# Altium footprint library Con Rect Stag PCB.PcbLib: 59 footprints (part 2 of 4)
Each footprint in its own frame and in the unit in brackets; x right, y up, seen from the top. Pads: shape width x height; smd on the part's side, far side on the other; paste and mask are expansions set on the pad; w line width, h text height; cw(c..) or ccw(c..) is an arc to the next point about the centre after c.
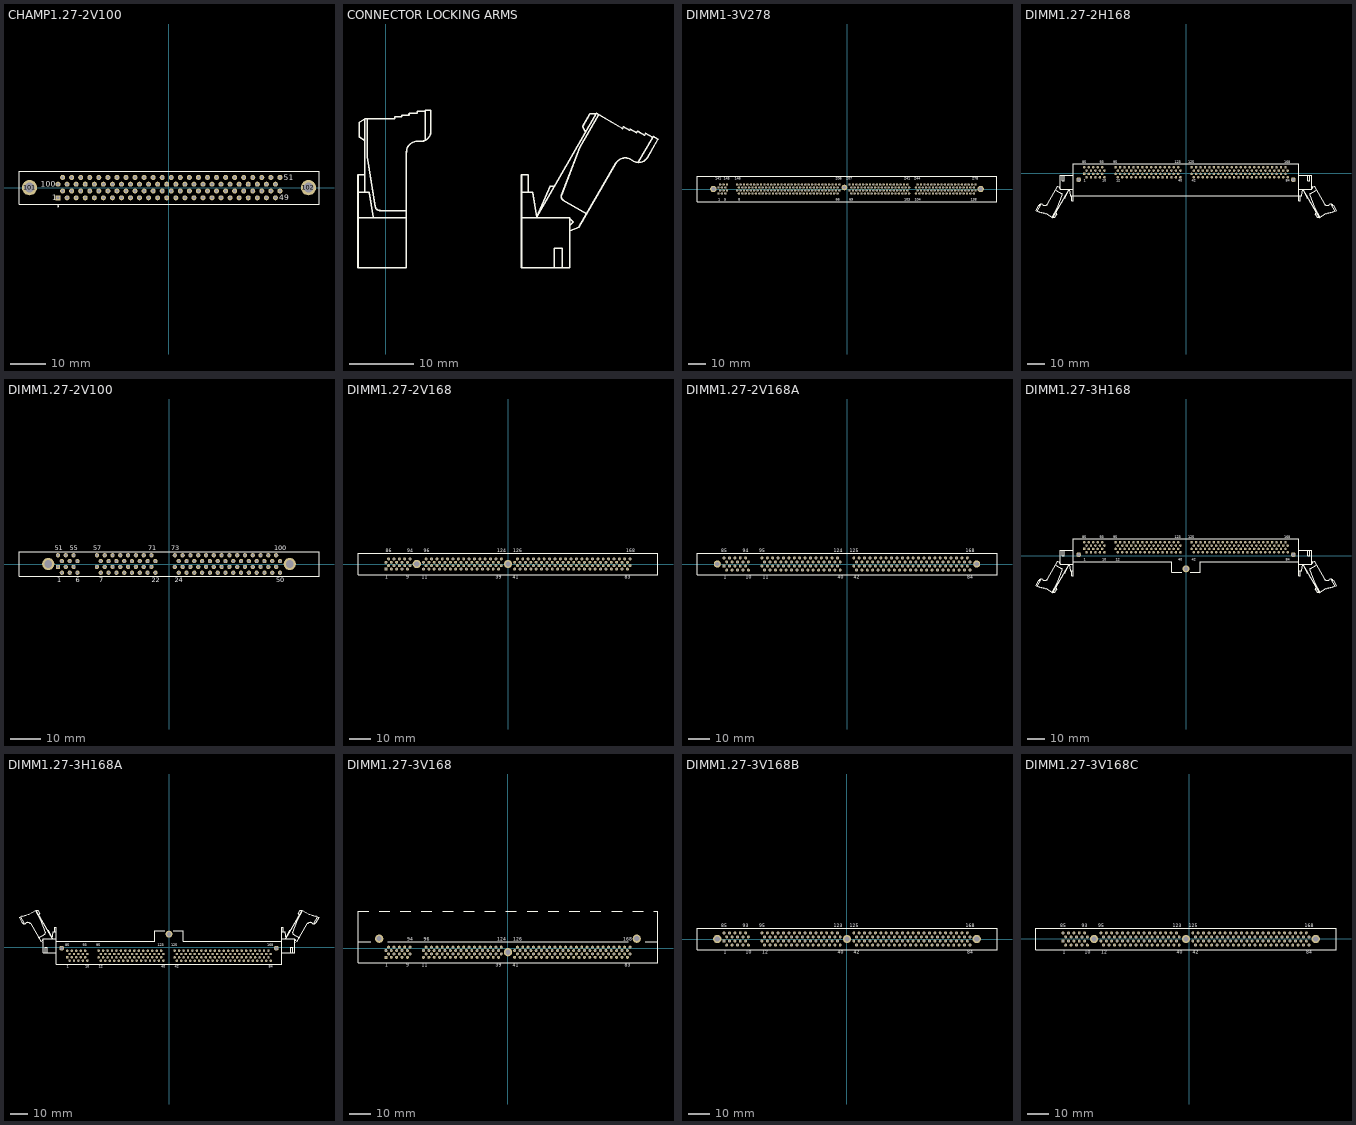
[diagram p1: the footprints below, top view; thin cyan lines are the x and y axes]

## CHAMP1.27-2V100 [mm] "Connector; CHAMP Miniature Ribbon 050 Series II; 100 Position; Vertical"
height 11.1
pads (102):
  rect 1.4x1.4 hole 0.8: 1(-31.115,-2.857)
  round 1.4 hole 0.8: 2(-29.845,-0.953) 3(-28.575,-2.857) 4(-27.305,-0.953) 5(-26.035,-2.857) 6(-24.765,-0.953) 7(-23.495,-2.857) 8(-22.225,-0.953) 9(-20.955,-2.857) 10(-19.685,-0.953) 11(-18.415,-2.857) 12(-17.145,-0.953) 13(-15.875,-2.857) 14(-14.605,-0.953) 15(-13.335,-2.857) 16(-12.065,-0.953) 17(-10.795,-2.857) 18(-9.525,-0.953) 19(-8.255,-2.857) 20(-6.985,-0.953) 21(-5.715,-2.857) 22(-4.445,-0.953) 23(-3.175,-2.857) 24(-1.905,-0.953) 25(-0.635,-2.857) 26(0.635,-0.953) 27(1.905,-2.857) 28(3.175,-0.953) 29(4.445,-2.857) 30(5.715,-0.953) 31(6.985,-2.857) 32(8.255,-0.953) 33(9.525,-2.857) 34(10.795,-0.953) 35(12.065,-2.857) 36(13.335,-0.953) 37(14.605,-2.857) 38(15.875,-0.953) 39(17.145,-2.857) 40(18.415,-0.953) 41(19.685,-2.857) 42(20.955,-0.953) 43(22.225,-2.857) 44(23.495,-0.953) 45(24.765,-2.857) 46(26.035,-0.953) 47(27.305,-2.857) 48(28.575,-0.953) 49(29.845,-2.857) 50(31.115,-0.953) 51(31.115,2.857) 52(29.845,0.953) 53(28.575,2.857) 54(27.305,0.953) 55(26.035,2.857) 56(24.765,0.953) 57(23.495,2.857) 58(22.225,0.953) 59(20.955,2.857) 60(19.685,0.953) 61(18.415,2.857) 62(17.145,0.953) 63(15.875,2.857) 64(14.605,0.953) 65(13.335,2.857) 66(12.065,0.953) 67(10.795,2.857) 68(9.525,0.953) 69(8.255,2.857) 70(6.985,0.953) 71(5.715,2.857) 72(4.445,0.953) 73(3.175,2.857) 74(1.905,0.953) 75(0.635,2.857) 76(-0.635,0.953) 77(-1.905,2.857) 78(-3.175,0.953) 79(-4.445,2.857) 80(-5.715,0.953) 81(-6.985,2.857) 82(-8.255,0.953) 83(-9.525,2.857) 84(-10.795,0.953) 85(-12.065,2.857) 86(-13.335,0.953) 87(-14.605,2.857) 88(-15.875,0.953) 89(-17.145,2.857) 90(-18.415,0.953) 91(-19.685,2.857) 92(-20.955,0.953) 93(-22.225,2.857) 94(-23.495,0.953) 95(-24.765,2.857) 96(-26.035,0.953) 97(-27.305,2.857) 98(-28.575,0.953) 99(-29.845,2.857) 100(-31.115,0.953)
  round 4.3 hole 2.8: 101(-39.125,0) 102(39.125,0)
Top Overlay:
  circle w0.25: c-31.115,-5.25 r0.125
  lines w0.2: -42.075,-4.6 42.075,-4.6 42.075,4.6 -42.075,4.6 -42.075,-4.6
  text "51" at 32.19,2.107 h1.5
  text "49" at 30.92,-3.608 h1.5
  text "1" at -32.69,-3.608 h1.5
  text "100" at -35.94,0.202 h1.5

## CONNECTOR LOCKING ARMS [mm]
Top Overlay:
  lines w0.25: -4.335,-45.865 3.135,-45.865 ; -3.355,-33.845 -4.155,-33.285 -4.155,-31.075 -3.295,-30.545 ; -3.295,-41.915 -3.295,-39.195 ; -2.895,-30.485 -2.895,-36.385 -1.635,-44.215 ccw(c-0.992,-44.091) -0.912,-44.741 ; -1.935,-45.795 -2.575,-41.945 -4.335,-41.945 ; -1.035,-44.765 3.185,-44.765 ; 3.185,-35.535 3.185,-53.665 -4.335,-53.665 -4.335,-41.945 ; 3.196,-35.674 cw(c4.865,-35.674) 4.865,-34.005 5.42,-34.005 ; 5.423,-34.007 ccw(c5.423,-32.445) 6.985,-32.445 ; 6.095,-29.325 4.865,-29.325 4.865,-29.665 3.645,-29.665 3.585,-29.725 3.585,-29.965 2.485,-29.965 2.485,-30.195 1.385,-30.195 1.385,-30.485 -3.295,-30.485 -3.295,-39.195 ; 6.105,-33.795 6.115,-29.345 6.115,-29.155 6.985,-29.155 6.985,-32.515 ; 21.065,-45.865 28.585,-45.865 28.585,-53.665 21.065,-53.665 21.065,-41.945 ; 22.105,-41.915 22.105,-39.195 21.065,-39.195 21.065,-41.945 ; 23.465,-45.795 22.825,-41.945 21.065,-41.945 ; 26.135,-53.665 26.135,-50.635 27.385,-50.635 27.385,-53.665 ; 26.195,-40.965 25.537,-40.965 23.437,-45.74 32.717,-29.667 36.77,-32.007 36.915,-31.756 37.868,-32.306 37.983,-32.106 38.936,-32.656 39.056,-32.449 39.137,-32.427 40.194,-33.037 40.364,-32.742 41.429,-33.357 ; 27.534,-43.164 31.189,-45.274 ; 27.653,-43.205 cw(c27.909,-42.602) 27.29,-42.387 30.114,-34.976 33.064,-29.867 ; 28.585,-47.865 29.989,-47.352 35.729,-37.41 ; 28.585,-47.061 29.093,-46.553 28.585,-46.045 ; 30.985,-32.547 30.572,-31.662 31.677,-29.748 32.687,-29.719 ; 35.744,-37.406 cw(c37.19,-38.24) 38.024,-36.795 38.505,-37.073 ; 38.506,-37.076 ccw(c39.287,-35.723) 40.64,-36.504 ; 39.203,-37.233 41.437,-33.385 41.532,-33.22 42.285,-33.655 40.605,-36.565 ; -4.335,-41.945 -4.335,-39.195 -3.295,-39.195

## DIMM1-3V278 [mm] "Connector; DIMM II; 278 Position; Vertical"
height 23.41
pads (281):
  rect 1.4x1.4 hole 0.76: 1(-75.5,-2.625)
  round 1.4 hole 0.76: 2(-74.5,-0.875) 3(-73.5,-2.625) 4(-72.5,-0.875) 5(-71.5,-2.625) 6(-70.5,-0.875) 7(-64.5,-0.875) 8(-63.5,-2.625) 9(-62.5,-0.875) 10(-61.5,-2.625) 11(-60.5,-0.875) 12(-59.5,-2.625) 13(-58.5,-0.875) 14(-57.5,-2.625) 15(-56.5,-0.875) 16(-55.5,-2.625) 17(-54.5,-0.875) 18(-53.5,-2.625) 19(-52.5,-0.875) 20(-51.5,-2.625) 21(-50.5,-0.875) 22(-49.5,-2.625) 23(-48.5,-0.875) 24(-47.5,-2.625) 25(-46.5,-0.875) 26(-45.5,-2.625) 27(-44.5,-0.875) 28(-43.5,-2.625) 29(-42.5,-0.875) 30(-41.5,-2.625) 31(-40.5,-0.875) 32(-39.5,-2.625) 33(-38.5,-0.875) 34(-37.5,-2.625) 35(-36.5,-0.875) 36(-35.5,-2.625) 37(-34.5,-0.875) 38(-33.5,-2.625) 39(-32.5,-0.875) 40(-31.5,-2.625) 41(-30.5,-0.875) 42(-29.5,-2.625) 43(-28.5,-0.875) 44(-27.5,-2.625) 45(-26.5,-0.875) 46(-25.5,-2.625) 47(-24.5,-0.875) 48(-23.5,-2.625) 49(-22.5,-0.875) 50(-21.5,-2.625) 51(-20.5,-0.875) 52(-19.5,-2.625) 53(-18.5,-0.875) 54(-17.5,-2.625) 55(-16.5,-0.875) 56(-15.5,-2.625) 57(-14.5,-0.875) 58(-13.5,-2.625) 59(-12.5,-0.875) 60(-11.5,-2.625) 61(-10.5,-0.875) 62(-9.5,-2.625) 63(-8.5,-0.875) 64(-7.5,-2.625) 65(-6.5,-0.875) 66(-5.5,-2.625) 67(-4.5,-0.875) 68(1.5,-0.875) 69(2.5,-2.625) 70(3.5,-0.875) 71(4.5,-2.625) 72(5.5,-0.875) 73(6.5,-2.625) 74(7.5,-0.875) 75(8.5,-2.625) 76(9.5,-0.875) 77(10.5,-2.625) 78(11.5,-0.875) 79(12.5,-2.625) 80(13.5,-0.875) 81(14.5,-2.625) 82(15.5,-0.875) 83(16.5,-2.625) 84(17.5,-0.875) 85(18.5,-2.625) 86(19.5,-0.875) 87(20.5,-2.625) 88(21.5,-0.875) 89(22.5,-2.625) 90(23.5,-0.875) 91(24.5,-2.625) 92(25.5,-0.875) 93(26.5,-2.625) 94(27.5,-0.875) 95(28.5,-2.625) 96(29.5,-0.875) 97(30.5,-2.625) 98(31.5,-0.875) 99(32.5,-2.625) 100(33.5,-0.875) 101(34.5,-2.625) 102(35.5,-0.875) 103(36.5,-2.625) 104(40.5,-2.625) 105(41.5,-0.875) 106(42.5,-2.625) 107(43.5,-0.875) 108(44.5,-2.625) 109(45.5,-0.875) 110(46.5,-2.625) 111(47.5,-0.875) 112(48.5,-2.625) 113(49.5,-0.875) 114(50.5,-2.625) 115(51.5,-0.875) 116(52.5,-2.625) 117(53.5,-0.875) 118(54.5,-2.625) 119(55.5,-0.875) 120(56.5,-2.625) 121(57.5,-0.875) 122(58.5,-2.625) 123(59.5,-0.875) 124(60.5,-2.625) 125(61.5,-0.875) 126(62.5,-2.625) 127(63.5,-0.875) 128(64.5,-2.625) 129(65.5,-0.875) 130(66.5,-2.625) 131(67.5,-0.875) 132(68.5,-2.625) 133(69.5,-0.875) 134(70.5,-2.625) 135(71.5,-0.875) 136(72.5,-2.625) 137(73.5,-0.875) 138(74.5,-2.625) 139(75.5,-0.875) 140(-75.5,0.875) 141(-74.5,2.625) 142(-73.5,0.875) 143(-72.5,2.625) 144(-71.5,0.875) 145(-70.5,2.625) 146(-64.5,2.625) 147(-63.5,0.875) 148(-62.5,2.625) 149(-61.5,0.875) 150(-60.5,2.625) 151(-59.5,0.875) 152(-58.5,2.625) 153(-57.5,0.875) 154(-56.5,2.625) 155(-55.5,0.875) 156(-54.5,2.625) 157(-53.5,0.875) 158(-52.5,2.625) 159(-51.5,0.875) 160(-50.5,2.625) 161(-49.5,0.875) 162(-48.5,2.625) 163(-47.5,0.875) 164(-46.5,2.625) 165(-45.5,0.875) 166(-44.5,2.625) 167(-43.5,0.875) 168(-42.5,2.625) 169(-41.5,0.875) 170(-40.5,2.625) 171(-39.5,0.875) 172(-38.5,2.625) 173(-37.5,0.875) 174(-36.5,2.625) 175(-35.5,0.875) 176(-34.5,2.625) 177(-33.5,0.875) 178(-32.5,2.625) 179(-31.5,0.875) 180(-30.5,2.625) 181(-29.5,0.875) 182(-28.5,2.625) 183(-27.5,0.875) 184(-26.5,2.625) 185(-25.5,0.875) 186(-24.5,2.625) 187(-23.5,0.875) 188(-22.5,2.625) 189(-21.5,0.875) 190(-20.5,2.625) 191(-19.5,0.875) 192(-18.5,2.625) 193(-17.5,0.875) 194(-16.5,2.625) 195(-15.5,0.875) 196(-14.5,2.625) 197(-13.5,0.875) 198(-12.5,2.625) 199(-11.5,0.875) 200(-10.5,2.625) 201(-9.5,0.875) 202(-8.5,2.625) 203(-7.5,0.875) 204(-6.5,2.625) 205(-5.5,0.875) 206(-4.5,2.625) 207(1.5,2.625) 208(2.5,0.875) 209(3.5,2.625) 210(4.5,0.875) 211(5.5,2.625) 212(6.5,0.875) 213(7.5,2.625) 214(8.5,0.875) 215(9.5,2.625) 216(10.5,0.875) 217(11.5,2.625) 218(12.5,0.875) 219(13.5,2.625) 220(14.5,0.875) 221(15.5,2.625) 222(16.5,0.875) 223(17.5,2.625) 224(18.5,0.875) 225(19.5,2.625) 226(20.5,0.875) 227(21.5,2.625) 228(22.5,0.875) 229(23.5,2.625) 230(24.5,0.875) 231(25.5,2.625) 232(26.5,0.875) 233(27.5,2.625) 234(28.5,0.875) 235(29.5,2.625) 236(30.5,0.875) 237(31.5,2.625) 238(32.5,0.875) 239(33.5,2.625) 240(34.5,0.875) 241(35.5,2.625) 242(36.5,0.875) 243(40.5,0.875) 244(41.5,2.625) 245(42.5,0.875) 246(43.5,2.625) 247(44.5,0.875) 248(45.5,2.625) 249(46.5,0.875) 250(47.5,2.625) 251(48.5,0.875) 252(49.5,2.625) 253(50.5,0.875) 254(51.5,2.625) 255(52.5,0.875) 256(53.5,2.625) 257(54.5,0.875) 258(55.5,2.625) 259(56.5,0.875) 260(57.5,2.625) 261(58.5,0.875) 262(59.5,2.625) 263(60.5,0.875) 264(61.5,2.625) 265(62.5,0.875) 266(63.5,2.625) 267(64.5,0.875) 268(65.5,2.625) 269(66.5,0.875) 270(67.5,2.625) 271(68.5,0.875) 272(69.5,2.625) 273(70.5,0.875) 274(71.5,2.625) 275(72.5,0.875) 276(73.5,2.625) 277(74.5,0.875) 278(75.5,2.625)
  round 3.8 hole 2.29: 279(-78.5,0) 281(78.5,0)
  round 3.3 hole 2: 280(-1.5,0.88)
Top Overlay:
  lines w0.2: -88.12,-7.5 -88.12,7.5 88.12,7.5 88.12,-7.5 -88.12,-7.5
  text "278" at 73.5,5.525 h1.5
  text "138" at 72.625,-7.025 h1.5
  text "244" at 39.5,5.525 h1.5
  text "104" at 39.75,-7.025 h1.5
  text "241" at 33.5,5.525 h1.5
  text "103" at 33.5,-7.025 h1.5
  text "207" at -0.5,5.525 h1.5
  text "69" at 1.25,-7.025 h1.5
  text "206" at -6.5,5.525 h1.5
  text "66" at -6.75,-7.025 h1.5
  text "146" at -66,5.525 h1.5
  text "8" at -64,-7.025 h1.5
  text "145" at -72.375,5.525 h1.5
  text "5" at -72,-7.025 h1.5
  text "141" at -77.3,5.525 h1.5
  text "1" at -75.75,-7.025 h1.5

## DIMM1.27-2H168 [mm] "Connector; DIMM II; 168 Position; Right Angle"
height 12.7
pads (170):
  rect 1.4x1.4 hole 0.8: 1(-57.785,-0.245)
  round 1.4 hole 0.8: 2(-56.515,-2.145) 3(-55.245,-0.245) 4(-53.975,-2.145) 5(-52.705,-0.245) 6(-51.435,-2.145) 7(-50.165,-0.245) 8(-48.895,-2.145) 9(-47.625,-0.245) 10(-46.355,-2.145) 11(-40.005,-0.245) 12(-38.735,-2.145) 13(-37.465,-0.245) 14(-36.195,-2.145) 15(-34.925,-0.245) 16(-33.655,-2.145) 17(-32.385,-0.245) 18(-31.115,-2.145) 19(-29.845,-0.245) 20(-28.575,-2.145) 21(-27.305,-0.245) 22(-26.035,-2.145) 23(-24.765,-0.245) 24(-23.495,-2.145) 25(-22.225,-0.245) 26(-20.955,-2.145) 27(-19.685,-0.245) 28(-18.415,-2.145) 29(-17.145,-0.245) 30(-15.875,-2.145) 31(-14.605,-0.245) 32(-13.335,-2.145) 33(-12.065,-0.245) 34(-10.795,-2.145) 35(-9.525,-0.245) 36(-8.255,-2.145) 37(-6.985,-0.245) 38(-5.715,-2.145) 39(-4.445,-0.245) 40(-3.175,-2.145) 41(3.175,-0.245) 42(4.445,-2.145) 43(5.715,-0.245) 44(6.985,-2.145) 45(8.255,-0.245) 46(9.525,-2.145) 47(10.795,-0.245) 48(12.065,-2.145) 49(13.335,-0.245) 50(14.605,-2.145) 51(15.875,-0.245) 52(17.145,-2.145) 53(18.415,-0.245) 54(19.685,-2.145) 55(20.955,-0.245) 56(22.225,-2.145) 57(23.495,-0.245) 58(24.765,-2.145) 59(26.035,-0.245) 60(27.305,-2.145) 61(28.575,-0.245) 62(29.845,-2.145) 63(31.115,-0.245) 64(32.385,-2.145) 65(33.655,-0.245) 66(34.925,-2.145) 67(36.195,-0.245) 68(37.465,-2.145) 69(38.735,-0.245) 70(40.005,-2.145) 71(41.275,-0.245) 72(42.545,-2.145) 73(43.815,-0.245) 74(45.085,-2.145) 75(46.355,-0.245) 76(47.625,-2.145) 77(48.895,-0.245) 78(50.165,-2.145) 79(51.435,-0.245) 80(52.705,-2.145) 81(53.975,-0.245) 82(55.245,-2.145) 83(56.515,-0.245) 84(57.785,-2.145) 85(-57.785,3.555) 86(-56.515,1.655) 87(-55.245,3.555) 88(-53.975,1.655) 89(-52.705,3.555) 90(-51.435,1.655) 91(-50.165,3.555) 92(-48.895,1.655) 93(-47.625,3.555) 94(-46.355,1.655) 95(-40.005,3.555) 96(-38.735,1.655) 97(-37.465,3.555) 98(-36.195,1.655) 99(-34.925,3.555) 100(-33.655,1.655) 101(-32.385,3.555) 102(-31.115,1.655) 103(-29.845,3.555) 104(-28.575,1.655) 105(-27.305,3.555) 106(-26.035,1.655) 107(-24.765,3.555) 108(-23.495,1.655) 109(-22.225,3.555) 110(-20.955,1.655) 111(-19.685,3.555) 112(-18.415,1.655) 113(-17.145,3.555) 114(-15.875,1.655) 115(-14.605,3.555) 116(-13.335,1.655) 117(-12.065,3.555) 118(-10.795,1.655) 119(-9.525,3.555) 120(-8.255,1.655) 121(-6.985,3.555) 122(-5.715,1.655) 123(-4.445,3.555) 124(-3.175,1.655) 125(3.175,3.555) 126(4.445,1.655) 127(5.715,3.555) 128(6.985,1.655) 129(8.255,3.555) 130(9.525,1.655) 131(10.795,3.555) 132(12.065,1.655) 133(13.335,3.555) 134(14.605,1.655) 135(15.875,3.555) 136(17.145,1.655) 137(18.415,3.555) 138(19.685,1.655) 139(20.955,3.555) 140(22.225,1.655) 141(23.495,3.555) 142(24.765,1.655) 143(26.035,3.555) 144(27.305,1.655) 145(28.575,3.555) 146(29.845,1.655) 147(31.115,3.555) 148(32.385,1.655) 149(33.655,3.555) 150(34.925,1.655) 151(36.195,3.555) 152(37.465,1.655) 153(38.735,3.555) 154(40.005,1.655) 155(41.275,3.555) 156(42.545,1.655) 157(43.815,3.555) 158(45.085,1.655) 159(46.355,3.555) 160(47.625,1.655) 161(48.895,3.555) 162(50.165,1.655) 163(51.435,3.555) 164(52.705,1.655) 165(53.975,3.555) 166(55.245,1.655) 167(56.515,3.555) 168(57.785,1.655)
  round 2.778 hole 1.778: 169(-60.96,-3.555) 170(60.96,-3.555)
Top Overlay:
  lines w0.25: -84.364,-21.363 -83.299,-21.978 -83.129,-21.683 -82.072,-22.293 -81.991,-22.271 -81.871,-22.064 -80.918,-22.614 -80.803,-22.414 -79.85,-22.964 -79.705,-22.713 -75.652,-25.053 -66.372,-8.98 -68.472,-13.755 -69.13,-13.755 ; -83.575,-18.216 cw(c-82.222,-18.997) -81.441,-17.644 ; -83.54,-18.155 -85.22,-21.065 -84.467,-21.5 -84.372,-21.335 -82.138,-17.487 ; -81.44,-17.647 -80.959,-17.925 ccw(c-80.125,-16.48) -78.679,-17.314 ; -78.664,-17.31 -72.924,-7.368 -71.52,-6.855 ; -75.999,-24.853 -73.049,-19.744 -70.225,-12.333 ccw(c-70.844,-12.118) -70.588,-11.515 ; -75.622,-25.001 -74.612,-24.972 -73.507,-23.058 -73.92,-22.173 ; -74.124,-9.446 -70.469,-11.556 ; -71.52,-8.675 -72.028,-8.167 -71.52,-7.659 ; -70.32,-1.055 -70.32,-4.085 -69.07,-4.085 -69.07,-1.055 ; -66.4,-8.925 -65.76,-12.775 -64,-12.775 ; -65.04,-12.805 -65.04,-15.525 -64,-15.525 -64,-12.775 ; -64,-8.855 -71.52,-8.855 -71.52,-1.055 -64,-1.055 ; 64,-8.855 71.52,-8.855 71.52,-1.055 64,-1.055 ; 65.04,-12.805 65.04,-15.525 64,-15.525 64,-12.775 ; 66.4,-8.925 65.76,-12.775 64,-12.775 ; 69.07,-1.055 69.07,-4.085 70.32,-4.085 70.32,-1.055 ; 69.13,-13.755 68.472,-13.755 66.372,-8.98 75.652,-25.053 79.705,-22.713 79.85,-22.964 80.803,-22.414 80.918,-22.614 81.871,-22.064 81.991,-22.271 82.072,-22.293 83.129,-21.683 83.299,-21.978 84.364,-21.363 ; 70.469,-11.556 74.124,-9.446 ; 70.588,-11.515 ccw(c70.844,-12.118) 70.225,-12.333 73.049,-19.744 75.999,-24.853 ; 71.52,-8.675 72.028,-8.167 71.52,-7.659 ; 71.52,-6.855 72.924,-7.368 78.664,-17.31 ; 73.92,-22.173 73.507,-23.058 74.612,-24.972 75.622,-25.001 ; 78.679,-17.314 ccw(c80.125,-16.48) 80.959,-17.925 81.44,-17.647 ; 81.441,-17.644 cw(c82.222,-18.997) 83.575,-18.216 ; 82.138,-17.487 84.372,-21.335 84.467,-21.5 85.22,-21.065 83.54,-18.155 ; -64,-12.775 64,-12.775 ; -64,-12.775 -64,-1.055 ; -64,-1.055 -64,5.445 64,5.445 64,-1.055 ; 64,-12.775 64,-1.055
  text "1" at -58.035,-4.72 h1.5
  text "85" at -59.035,5.92 h1.5
  text "10" at -47.48,-4.72 h1.5
  text "93" at -48.875,5.92 h1.5
  text "95" at -41.255,5.92 h1.5
  text "40" at -4.425,-4.72 h1.5
  text "123" at -6.32,5.92 h1.5
  text "125" at 1.3,5.92 h1.5
  text "42" at 3.195,-4.72 h1.5
  text "84" at 56.535,-4.72 h1.5
  text "168" at 55.91,5.92 h1.5
  text "12" at -39.61,-4.72 h1.5

## DIMM1.27-2V100 [mm] "Connector; DIMM II; 100 Position; Vertical"
height 23.82
pads (102):
  rect 1.4x1.4 hole 0.81: 1(-36.195,-0.95)
  round 1.4 hole 0.81: 2(-34.925,-2.85) 3(-33.655,-0.95) 4(-32.385,-2.85) 5(-31.115,-0.95) 6(-29.845,-2.85) 7(-23.495,-0.95) 8(-22.225,-2.85) 9(-20.955,-0.95) 10(-19.685,-2.85) 11(-18.415,-0.95) 12(-17.145,-2.85) 13(-15.875,-0.95) 14(-14.605,-2.85) 15(-13.335,-0.95) 16(-12.065,-2.85) 17(-10.795,-0.95) 18(-9.525,-2.85) 19(-8.255,-0.95) 20(-6.985,-2.85) 21(-5.715,-0.95) 22(-4.445,-2.85) 23(1.905,-0.95) 24(3.175,-2.85) 25(4.445,-0.95) 26(5.715,-2.85) 27(6.985,-0.95) 28(8.255,-2.85) 29(9.525,-0.95) 30(10.795,-2.85) 31(12.065,-0.95) 32(13.335,-2.85) 33(14.605,-0.95) 34(15.875,-2.85) 35(17.145,-0.95) 36(18.415,-2.85) 37(19.685,-0.95) 38(20.955,-2.85) 39(22.225,-0.95) 40(23.495,-2.85) 41(24.765,-0.95) 42(26.035,-2.85) 43(27.305,-0.95) 44(28.575,-2.85) 45(29.845,-0.95) 46(31.115,-2.85) 47(32.385,-0.95) 48(33.655,-2.85) 49(34.925,-0.95) 50(36.195,-2.85) 51(-36.195,2.85) 52(-34.925,0.95) 53(-33.655,2.85) 54(-32.385,0.95) 55(-31.115,2.85) 56(-29.845,0.95) 57(-23.495,2.85) 58(-22.225,0.95) 59(-20.955,2.85) 60(-19.685,0.95) 61(-18.415,2.85) 62(-17.145,0.95) 63(-15.875,2.85) 64(-14.605,0.95) 65(-13.335,2.85) 66(-12.065,0.95) 67(-10.795,2.85) 68(-9.525,0.95) 69(-8.255,2.85) 70(-6.985,0.95) 71(-5.715,2.85) 72(-4.445,0.95) 73(1.905,2.85) 74(3.175,0.95) 75(4.445,2.85) 76(5.715,0.95) 77(6.985,2.85) 78(8.255,0.95) 79(9.525,2.85) 80(10.795,0.95) 81(12.065,2.85) 82(13.335,0.95) 83(14.605,2.85) 84(15.875,0.95) 85(17.145,2.85) 86(18.415,0.95) 87(19.685,2.85) 88(20.955,0.95) 89(22.225,2.85) 90(23.495,0.95) 91(24.765,2.85) 92(26.035,0.95) 93(27.305,2.85) 94(28.575,0.95) 95(29.845,2.85) 96(31.115,0.95) 97(32.385,2.85) 98(33.655,0.95) 99(34.925,2.85) 100(36.195,0.95)
  round 4.04 hole 2.54: 101(-39.365,0) 102(39.365,0)
Top Overlay:
  lines w0.2: -48.9,-4 48.9,-4 48.9,4 -48.9,4 -48.9,-4
  text "100" at 34.32,4.475 h1.5
  text "50" at 34.945,-5.975 h1.5
  text "73" at 0.655,4.475 h1.5
  text "24" at 1.925,-5.975 h1.5
  text "71" at -6.715,4.475 h1.5
  text "22" at -5.695,-5.975 h1.5
  text "57" at -24.745,4.475 h1.5
  text "7" at -22.725,-5.975 h1.5
  text "55" at -32.365,4.475 h1.5
  text "6" at -30.345,-5.975 h1.5
  text "51" at -37.195,4.475 h1.5
  text "1" at -36.445,-5.975 h1.5

## DIMM1.27-2V168 [mm] "Connector; DIMM; 168 Position; Vertical"
height 23.15
pads (170):
  rect 1.4x1.4 hole 0.8: 1(-57.785,-2.4)
  round 1.4 hole 0.8: 2(-56.515,-0.8) 3(-55.245,-2.4) 4(-53.975,-0.8) 5(-52.705,-2.4) 6(-51.435,-0.8) 7(-50.165,-2.4) 8(-48.895,-0.8) 9(-47.625,-2.4) 10(-46.355,-0.8) 11(-40.005,-2.4) 12(-38.735,-0.8) 13(-37.465,-2.4) 14(-36.195,-0.8) 15(-34.925,-2.4) 16(-33.655,-0.8) 17(-32.385,-2.4) 18(-31.115,-0.8) 19(-29.845,-2.4) 20(-28.575,-0.8) 21(-27.305,-2.4) 22(-26.035,-0.8) 23(-24.765,-2.4) 24(-23.495,-0.8) 25(-22.225,-2.4) 26(-20.955,-0.8) 27(-19.685,-2.4) 28(-18.415,-0.8) 29(-17.145,-2.4) 30(-15.875,-0.8) 31(-14.605,-2.4) 32(-13.335,-0.8) 33(-12.065,-2.4) 34(-10.795,-0.8) 35(-9.525,-2.4) 36(-8.255,-0.8) 37(-6.985,-2.4) 38(-5.715,-0.8) 39(-4.445,-2.4) 40(-3.175,-0.8) 41(3.175,-2.4) 42(4.445,-0.8) 43(5.715,-2.4) 44(6.985,-0.8) 45(8.255,-2.4) 46(9.525,-0.8) 47(10.795,-2.4) 48(12.065,-0.8) 49(13.335,-2.4) 50(14.605,-0.8) 51(15.875,-2.4) 52(17.145,-0.8) 53(18.415,-2.4) 54(19.685,-0.8) 55(20.955,-2.4) 56(22.225,-0.8) 57(23.495,-2.4) 58(24.765,-0.8) 59(26.035,-2.4) 60(27.305,-0.8) 61(28.575,-2.4) 62(29.845,-0.8) 63(31.115,-2.4) 64(32.385,-0.8) 65(33.655,-2.4) 66(34.925,-0.8) 67(36.195,-2.4) 68(37.465,-0.8) 69(38.735,-2.4) 70(40.005,-0.8) 71(41.275,-2.4) 72(42.545,-0.8) 73(43.815,-2.4) 74(45.085,-0.8) 75(46.355,-2.4) 76(47.625,-0.8) 77(48.895,-2.4) 78(50.165,-0.8) 79(51.435,-2.4) 80(52.705,-0.8) 81(53.975,-2.4) 82(55.245,-0.8) 83(56.515,-2.4) 84(57.785,-0.8) 85(-57.785,0.8) 86(-56.515,2.4) 87(-55.245,0.8) 88(-53.975,2.4) 89(-52.705,0.8) 90(-51.435,2.4) 91(-50.165,0.8) 92(-48.895,2.4) 93(-47.625,0.8) 94(-46.355,2.4) 95(-40.005,0.8) 96(-38.735,2.4) 97(-37.465,0.8) 98(-36.195,2.4) 99(-34.925,0.8) 100(-33.655,2.4) 101(-32.385,0.8) 102(-31.115,2.4) 103(-29.845,0.8) 104(-28.575,2.4) 105(-27.305,0.8) 106(-26.035,2.4) 107(-24.765,0.8) 108(-23.495,2.4) 109(-22.225,0.8) 110(-20.955,2.4) 111(-19.685,0.8) 112(-18.415,2.4) 113(-17.145,0.8) 114(-15.875,2.4) 115(-14.605,0.8) 116(-13.335,2.4) 117(-12.065,0.8) 118(-10.795,2.4) 119(-9.525,0.8) 120(-8.255,2.4) 121(-6.985,0.8) 122(-5.715,2.4) 123(-4.445,0.8) 124(-3.175,2.4) 125(3.175,0.8) 126(4.445,2.4) 127(5.715,0.8) 128(6.985,2.4) 129(8.255,0.8) 130(9.525,2.4) 131(10.795,0.8) 132(12.065,2.4) 133(13.335,0.8) 134(14.605,2.4) 135(15.875,0.8) 136(17.145,2.4) 137(18.415,0.8) 138(19.685,2.4) 139(20.955,0.8) 140(22.225,2.4) 141(23.495,0.8) 142(24.765,2.4) 143(26.035,0.8) 144(27.305,2.4) 145(28.575,0.8) 146(29.845,2.4) 147(31.115,0.8) 148(32.385,2.4) 149(33.655,0.8) 150(34.925,2.4) 151(36.195,0.8) 152(37.465,2.4) 153(38.735,0.8) 154(40.005,2.4) 155(41.275,0.8) 156(42.545,2.4) 157(43.815,0.8) 158(45.085,2.4) 159(46.355,0.8) 160(47.625,2.4) 161(48.895,0.8) 162(50.165,2.4) 163(51.435,0.8) 164(52.705,2.4) 165(53.975,0.8) 166(55.245,2.4) 167(56.515,0.8) 168(57.785,2.4)
  round 3.9 hole 2.4: 169(-43.18,0) 170(0,0)
Top Overlay:
  lines w0.2: -71,-5 71,-5 71,5 -71,5 -71,-5
  text "86" at -57.765,5.475 h1.5
  text "1" at -58.035,-6.975 h1.5
  text "94" at -47.605,5.475 h1.5
  text "11" at -40.88,-6.975 h1.5
  text "96" at -39.985,5.475 h1.5
  text "124" at -5.05,5.475 h1.5
  text "41" at 2.175,-6.975 h1.5
  text "126" at 2.57,5.475 h1.5
  text "83" at 55.265,-6.975 h1.5
  text "168" at 55.91,5.475 h1.5
  text "9" at -48.125,-6.975 h1.5
  text "39" at -5.695,-6.975 h1.5

## DIMM1.27-2V168A [mm] "Connector; DIMM II; 168 Position; Vertical"
height 23.77
pads (170):
  rect 1.4x1.4 hole 0.8: 1(-57.785,-0.95)
  round 1.4 hole 0.8: 2(-56.515,-2.85) 3(-55.245,-0.95) 4(-53.975,-2.85) 5(-52.705,-0.95) 6(-51.435,-2.85) 7(-50.165,-0.95) 8(-48.895,-2.85) 9(-47.625,-0.95) 10(-46.355,-2.85) 11(-40.005,-0.95) 12(-38.735,-2.85) 13(-37.465,-0.95) 14(-36.195,-2.85) 15(-34.925,-0.95) 16(-33.655,-2.85) 17(-32.385,-0.95) 18(-31.115,-2.85) 19(-29.845,-0.95) 20(-28.575,-2.85) 21(-27.305,-0.95) 22(-26.035,-2.85) 23(-24.765,-0.95) 24(-23.495,-2.85) 25(-22.225,-0.95) 26(-20.955,-2.85) 27(-19.685,-0.95) 28(-18.415,-2.85) 29(-17.145,-0.95) 30(-15.875,-2.85) 31(-14.605,-0.95) 32(-13.335,-2.85) 33(-12.065,-0.95) 34(-10.795,-2.85) 35(-9.525,-0.95) 36(-8.255,-2.85) 37(-6.985,-0.95) 38(-5.715,-2.85) 39(-4.445,-0.95) 40(-3.175,-2.85) 41(3.175,-0.95) 42(4.445,-2.85) 43(5.715,-0.95) 44(6.985,-2.85) 45(8.255,-0.95) 46(9.525,-2.85) 47(10.795,-0.95) 48(12.065,-2.85) 49(13.335,-0.95) 50(14.605,-2.85) 51(15.875,-0.95) 52(17.145,-2.85) 53(18.415,-0.95) 54(19.685,-2.85) 55(20.955,-0.95) 56(22.225,-2.85) 57(23.495,-0.95) 58(24.765,-2.85) 59(26.035,-0.95) 60(27.305,-2.85) 61(28.575,-0.95) 62(29.845,-2.85) 63(31.115,-0.95) 64(32.385,-2.85) 65(33.655,-0.95) 66(34.925,-2.85) 67(36.195,-0.95) 68(37.465,-2.85) 69(38.735,-0.95) 70(40.005,-2.85) 71(41.275,-0.95) 72(42.545,-2.85) 73(43.815,-0.95) 74(45.085,-2.85) 75(46.355,-0.95) 76(47.625,-2.85) 77(48.895,-0.95) 78(50.165,-2.85) 79(51.435,-0.95) 80(52.705,-2.85) 81(53.975,-0.95) 82(55.245,-2.85) 83(56.515,-0.95) 84(57.785,-2.85) 85(-57.785,2.85) 86(-56.515,0.95) 87(-55.245,2.85) 88(-53.975,0.95) 89(-52.705,2.85) 90(-51.435,0.95) 91(-50.165,2.85) 92(-48.895,0.95) 93(-47.625,2.85) 94(-46.355,0.95) 95(-40.005,2.85) 96(-38.735,0.95) 97(-37.465,2.85) 98(-36.195,0.95) 99(-34.925,2.85) 100(-33.655,0.95) 101(-32.385,2.85) 102(-31.115,0.95) 103(-29.845,2.85) 104(-28.575,0.95) 105(-27.305,2.85) 106(-26.035,0.95) 107(-24.765,2.85) 108(-23.495,0.95) 109(-22.225,2.85) 110(-20.955,0.95) 111(-19.685,2.85) 112(-18.415,0.95) 113(-17.145,2.85) 114(-15.875,0.95) 115(-14.605,2.85) 116(-13.335,0.95) 117(-12.065,2.85) 118(-10.795,0.95) 119(-9.525,2.85) 120(-8.255,0.95) 121(-6.985,2.85) 122(-5.715,0.95) 123(-4.445,2.85) 124(-3.175,0.95) 125(3.175,2.85) 126(4.445,0.95) 127(5.715,2.85) 128(6.985,0.95) 129(8.255,2.85) 130(9.525,0.95) 131(10.795,2.85) 132(12.065,0.95) 133(13.335,2.85) 134(14.605,0.95) 135(15.875,2.85) 136(17.145,0.95) 137(18.415,2.85) 138(19.685,0.95) 139(20.955,2.85) 140(22.225,0.95) 141(23.495,2.85) 142(24.765,0.95) 143(26.035,2.85) 144(27.305,0.95) 145(28.575,2.85) 146(29.845,0.95) 147(31.115,2.85) 148(32.385,0.95) 149(33.655,2.85) 150(34.925,0.95) 151(36.195,2.85) 152(37.465,0.95) 153(38.735,2.85) 154(40.005,0.95) 155(41.275,2.85) 156(42.545,0.95) 157(43.815,2.85) 158(45.085,0.95) 159(46.355,2.85) 160(47.625,0.95) 161(48.895,2.85) 162(50.165,0.95) 163(51.435,2.85) 164(52.705,0.95) 165(53.975,2.85) 166(55.245,0.95) 167(56.515,2.85) 168(57.785,0.95)
  round 3.3 hole 2: 169(-60.955,0) 170(60.955,0)
Top Overlay:
  lines w0.2: -70.49,-5 70.49,-5 70.49,5 -70.49,5 -70.49,-5
  text "94" at -48.875,5.475 h1.5
  text "168" at 55.91,5.475 h1.5
  text "84" at 56.535,-6.975 h1.5
  text "125" at 1.3,5.475 h1.5
  text "42" at 3.195,-6.975 h1.5
  text "124" at -6.32,5.475 h1.5
  text "40" at -4.425,-6.975 h1.5
  text "95" at -41.255,5.475 h1.5
  text "11" at -39.61,-6.975 h1.5
  text "10" at -47.48,-6.975 h1.5
  text "85" at -59.035,5.475 h1.5
  text "1" at -58.035,-6.975 h1.5

## DIMM1.27-3H168 [mm] "Connector; DIMM; 168 Position; Right Angle"
height 13.2
pads (171):
  rect 1.4x1.4 hole 0.81: 1(-57.785,3.755)
  round 1.4 hole 0.81: 2(-56.515,1.855) 3(-55.245,3.755) 4(-53.975,1.855) 5(-52.705,3.755) 6(-51.435,1.855) 7(-50.165,3.755) 8(-48.895,1.855) 9(-47.625,3.755) 10(-46.355,1.855) 11(-40.005,3.755) 12(-38.735,1.855) 13(-37.465,3.755) 14(-36.195,1.855) 15(-34.925,3.755) 16(-33.655,1.855) 17(-32.385,3.755) 18(-31.115,1.855) 19(-29.845,3.755) 20(-28.575,1.855) 21(-27.305,3.755) 22(-26.035,1.855) 23(-24.765,3.755) 24(-23.495,1.855) 25(-22.225,3.755) 26(-20.955,1.855) 27(-19.685,3.755) 28(-18.415,1.855) 29(-17.145,3.755) 30(-15.875,1.855) 31(-14.605,3.755) 32(-13.335,1.855) 33(-12.065,3.755) 34(-10.795,1.855) 35(-9.525,3.755) 36(-8.255,1.855) 37(-6.985,3.755) 38(-5.715,1.855) 39(-4.445,3.755) 40(-3.175,1.855) 41(3.175,3.755) 42(4.445,1.855) 43(5.715,3.755) 44(6.985,1.855) 45(8.255,3.755) 46(9.525,1.855) 47(10.795,3.755) 48(12.065,1.855) 49(13.335,3.755) 50(14.605,1.855) 51(15.875,3.755) 52(17.145,1.855) 53(18.415,3.755) 54(19.685,1.855) 55(20.955,3.755) 56(22.225,1.855) 57(23.495,3.755) 58(24.765,1.855) 59(26.035,3.755) 60(27.305,1.855) 61(28.575,3.755) 62(29.845,1.855) 63(31.115,3.755) 64(32.385,1.855) 65(33.655,3.755) 66(34.925,1.855) 67(36.195,3.755) 68(37.465,1.855) 69(38.735,3.755) 70(40.005,1.855) 71(41.275,3.755) 72(42.545,1.855) 73(43.815,3.755) 74(45.085,1.855) 75(46.355,3.755) 76(47.625,1.855) 77(48.895,3.755) 78(50.165,1.855) 79(51.435,3.755) 80(52.705,1.855) 81(53.975,3.755) 82(55.245,1.855) 83(56.515,3.755) 84(57.785,1.855) 85(-57.785,7.555) 86(-56.515,5.655) 87(-55.245,7.555) 88(-53.975,5.655) 89(-52.705,7.555) 90(-51.435,5.655) 91(-50.165,7.555) 92(-48.895,5.655) 93(-47.625,7.555) 94(-46.355,5.655) 95(-40.005,7.555) 96(-38.735,5.655) 97(-37.465,7.555) 98(-36.195,5.655) 99(-34.925,7.555) 100(-33.655,5.655) 101(-32.385,7.555) 102(-31.115,5.655) 103(-29.845,7.555) 104(-28.575,5.655) 105(-27.305,7.555) 106(-26.035,5.655) 107(-24.765,7.555) 108(-23.495,5.655) 109(-22.225,7.555) 110(-20.955,5.655) 111(-19.685,7.555) 112(-18.415,5.655) 113(-17.145,7.555) 114(-15.875,5.655) 115(-14.605,7.555) 116(-13.335,5.655) 117(-12.065,7.555) 118(-10.795,5.655) 119(-9.525,7.555) 120(-8.255,5.655) 121(-6.985,7.555) 122(-5.715,5.655) 123(-4.445,7.555) 124(-3.175,5.655) 125(3.175,7.555) 126(4.445,5.655) 127(5.715,7.555) 128(6.985,5.655) 129(8.255,7.555) 130(9.525,5.655) 131(10.795,7.555) 132(12.065,5.655) 133(13.335,7.555) 134(14.605,5.655) 135(15.875,7.555) 136(17.145,5.655) 137(18.415,7.555) 138(19.685,5.655) 139(20.955,7.555) 140(22.225,5.655) 141(23.495,7.555) 142(24.765,5.655) 143(26.035,7.555) 144(27.305,5.655) 145(28.575,7.555) 146(29.845,5.655) 147(31.115,7.555) 148(32.385,5.655) 149(33.655,7.555) 150(34.925,5.655) 151(36.195,7.555) 152(37.465,5.655) 153(38.735,7.555) 154(40.005,5.655) 155(41.275,7.555) 156(42.545,5.655) 157(43.815,7.555) 158(45.085,5.655) 159(46.355,7.555) 160(47.625,5.655) 161(48.895,7.555) 162(50.165,5.655) 163(51.435,7.555) 164(52.705,5.655) 165(53.975,7.555) 166(55.245,5.655) 167(56.515,7.555) 168(57.785,5.655)
  round 2.778 hole 1.778: 169(-60.96,0.445) 171(60.96,0.445)
  round 3.94 hole 2.44: 170(0,-7.555)
Top Overlay:
  lines w0.25: -84.364,-17.363 -83.299,-17.978 -83.129,-17.683 -82.072,-18.293 -81.991,-18.271 -81.871,-18.064 -80.918,-18.614 -80.803,-18.414 -79.85,-18.964 -79.705,-18.713 -75.652,-21.053 -66.372,-4.98 -68.472,-9.755 -69.13,-9.755 ; -83.575,-14.216 cw(c-82.222,-14.997) -81.441,-13.644 ; -83.54,-14.155 -85.22,-17.065 -84.467,-17.5 -84.372,-17.335 -82.138,-13.487 ; -81.44,-13.647 -80.959,-13.925 ccw(c-80.125,-12.48) -78.679,-13.314 ; -78.664,-13.31 -72.924,-3.368 -71.52,-2.855 ; -75.999,-20.853 -73.049,-15.744 -70.225,-8.333 ccw(c-70.844,-8.118) -70.588,-7.515 ; -75.622,-21.001 -74.612,-20.972 -73.507,-19.058 -73.92,-18.173 ; -74.124,-5.446 -70.469,-7.556 ; -71.52,-4.675 -72.028,-4.167 -71.52,-3.659 ; -70.32,2.945 -70.32,-0.085 -69.07,-0.085 -69.07,2.945 ; -66.4,-4.925 -65.76,-8.775 -64,-8.775 ; -65.04,-8.805 -65.04,-11.525 -64,-11.525 -64,-8.775 ; -64,-4.855 -71.52,-4.855 -71.52,2.945 -64,2.945 ; -64,-3.555 -8.115,-3.555 -8.115,-9.555 -2.5,-9.555 ; 2.5,-9.555 8.115,-9.555 8.115,-3.555 64,-3.555 ; 64,-4.855 71.52,-4.855 71.52,2.945 64,2.945 ; 65.04,-8.805 65.04,-11.525 64,-11.525 64,-8.775 ; 66.4,-4.925 65.76,-8.775 64,-8.775 ; 69.07,2.945 69.07,-0.085 70.32,-0.085 70.32,2.945 ; 69.13,-9.755 68.472,-9.755 66.372,-4.98 75.652,-21.053 79.705,-18.713 79.85,-18.964 80.803,-18.414 80.918,-18.614 81.871,-18.064 81.991,-18.271 82.072,-18.293 83.129,-17.683 83.299,-17.978 84.364,-17.363 ; 70.469,-7.556 74.124,-5.446 ; 70.588,-7.515 ccw(c70.844,-8.118) 70.225,-8.333 73.049,-15.744 75.999,-20.853 ; 71.52,-4.675 72.028,-4.167 71.52,-3.659 ; 71.52,-2.855 72.924,-3.368 78.664,-13.31 ; 73.92,-18.173 73.507,-19.058 74.612,-20.972 75.622,-21.001 ; 78.679,-13.314 ccw(c80.125,-12.48) 80.959,-13.925 81.44,-13.647 ; 81.441,-13.644 cw(c82.222,-14.997) 83.575,-14.216 ; 82.138,-13.487 84.372,-17.335 84.467,-17.5 85.22,-17.065 83.54,-14.155 ; -64,-8.775 -64,2.945 ; -64,2.945 -64,9.445 64,9.445 64,2.945 ; 64,-8.775 64,2.945
  text "1" at -58.035,-3.08 h1.5
  text "85" at -59.035,9.92 h1.5
  text "10" at -47.48,-3.08 h1.5
  text "93" at -48.875,9.92 h1.5
  text "95" at -41.255,9.92 h1.5
  text "40" at -4.425,-3.08 h1.5
  text "123" at -6.32,9.92 h1.5
  text "125" at 1.3,9.92 h1.5
  text "42" at 3.195,-3.08 h1.5
  text "84" at 56.535,-3.08 h1.5
  text "168" at 55.91,9.92 h1.5
  text "12" at -39.86,-3.08 h1.5

## DIMM1.27-3H168A [mm] "Connector; DIMM II; 168 Position; Right Angle"
height 12.7
pads (171):
  rect 1.4x1.4 hole 0.81: 1(-57.785,-5.645)
  round 1.4 hole 0.81: 2(-56.515,-7.545) 3(-55.245,-5.645) 4(-53.975,-7.545) 5(-52.705,-5.645) 6(-51.435,-7.545) 7(-50.165,-5.645) 8(-48.895,-7.545) 9(-47.625,-5.645) 10(-46.355,-7.545) 11(-40.005,-5.645) 12(-38.735,-7.545) 13(-37.465,-5.645) 14(-36.195,-7.545) 15(-34.925,-5.645) 16(-33.655,-7.545) 17(-32.385,-5.645) 18(-31.115,-7.545) 19(-29.845,-5.645) 20(-28.575,-7.545) 21(-27.305,-5.645) 22(-26.035,-7.545) 23(-24.765,-5.645) 24(-23.495,-7.545) 25(-22.225,-5.645) 26(-20.955,-7.545) 27(-19.685,-5.645) 28(-18.415,-7.545) 29(-17.145,-5.645) 30(-15.875,-7.545) 31(-14.605,-5.645) 32(-13.335,-7.545) 33(-12.065,-5.645) 34(-10.795,-7.545) 35(-9.525,-5.645) 36(-8.255,-7.545) 37(-6.985,-5.645) 38(-5.715,-7.545) 39(-4.445,-5.645) 40(-3.175,-7.545) 41(3.175,-5.645) 42(4.445,-7.545) 43(5.715,-5.645) 44(6.985,-7.545) 45(8.255,-5.645) 46(9.525,-7.545) 47(10.795,-5.645) 48(12.065,-7.545) 49(13.335,-5.645) 50(14.605,-7.545) 51(15.875,-5.645) 52(17.145,-7.545) 53(18.415,-5.645) 54(19.685,-7.545) 55(20.955,-5.645) 56(22.225,-7.545) 57(23.495,-5.645) 58(24.765,-7.545) 59(26.035,-5.645) 60(27.305,-7.545) 61(28.575,-5.645) 62(29.845,-7.545) 63(31.115,-5.645) 64(32.385,-7.545) 65(33.655,-5.645) 66(34.925,-7.545) 67(36.195,-5.645) 68(37.465,-7.545) 69(38.735,-5.645) 70(40.005,-7.545) 71(41.275,-5.645) 72(42.545,-7.545) 73(43.815,-5.645) 74(45.085,-7.545) 75(46.355,-5.645) 76(47.625,-7.545) 77(48.895,-5.645) 78(50.165,-7.545) 79(51.435,-5.645) 80(52.705,-7.545) 81(53.975,-5.645) 82(55.245,-7.545) 83(56.515,-5.645) 84(57.785,-7.545) 85(-57.785,-1.845) 86(-56.515,-3.745) 87(-55.245,-1.845) 88(-53.975,-3.745) 89(-52.705,-1.845) 90(-51.435,-3.745) 91(-50.165,-1.845) 92(-48.895,-3.745) 93(-47.625,-1.845) 94(-46.355,-3.745) 95(-40.005,-1.845) 96(-38.735,-3.745) 97(-37.465,-1.845) 98(-36.195,-3.745) 99(-34.925,-1.845) 100(-33.655,-3.745) 101(-32.385,-1.845) 102(-31.115,-3.745) 103(-29.845,-1.845) 104(-28.575,-3.745) 105(-27.305,-1.845) 106(-26.035,-3.745) 107(-24.765,-1.845) 108(-23.495,-3.745) 109(-22.225,-1.845) 110(-20.955,-3.745) 111(-19.685,-1.845) 112(-18.415,-3.745) 113(-17.145,-1.845) 114(-15.875,-3.745) 115(-14.605,-1.845) 116(-13.335,-3.745) 117(-12.065,-1.845) 118(-10.795,-3.745) 119(-9.525,-1.845) 120(-8.255,-3.745) 121(-6.985,-1.845) 122(-5.715,-3.745) 123(-4.445,-1.845) 124(-3.175,-3.745) 125(3.175,-1.845) 126(4.445,-3.745) 127(5.715,-1.845) 128(6.985,-3.745) 129(8.255,-1.845) 130(9.525,-3.745) 131(10.795,-1.845) 132(12.065,-3.745) 133(13.335,-1.845) 134(14.605,-3.745) 135(15.875,-1.845) 136(17.145,-3.745) 137(18.415,-1.845) 138(19.685,-3.745) 139(20.955,-1.845) 140(22.225,-3.745) 141(23.495,-1.845) 142(24.765,-3.745) 143(26.035,-1.845) 144(27.305,-3.745) 145(28.575,-1.845) 146(29.845,-3.745) 147(31.115,-1.845) 148(32.385,-3.745) 149(33.655,-1.845) 150(34.925,-3.745) 151(36.195,-1.845) 152(37.465,-3.745) 153(38.735,-1.845) 154(40.005,-3.745) 155(41.275,-1.845) 156(42.545,-3.745) 157(43.815,-1.845) 158(45.085,-3.745) 159(46.355,-1.845) 160(47.625,-3.745) 161(48.895,-1.845) 162(50.165,-3.745) 163(51.435,-1.845) 164(52.705,-3.745) 165(53.975,-1.845) 166(55.245,-3.745) 167(56.515,-1.845) 168(57.785,-3.745)
  round 2.778 hole 1.778: 169(60.96,-0.455) 171(-60.96,-0.455)
  round 3.94 hole 2.44: 170(0,7.545)
Top Overlay:
  lines w0.25: -84.364,17.373 -83.299,17.988 -83.129,17.693 -82.072,18.303 -81.991,18.281 -81.871,18.074 -80.918,18.624 -80.803,18.424 -79.85,18.974 -79.705,18.723 -75.652,21.063 -66.372,4.99 -68.472,9.765 -69.13,9.765 ; -83.575,14.226 ccw(c-82.222,15.007) -81.441,13.654 ; -83.54,14.165 -85.22,17.075 -84.467,17.51 -84.372,17.345 -82.138,13.497 ; -81.44,13.657 -80.959,13.935 cw(c-80.125,12.49) -78.679,13.324 ; -78.664,13.32 -72.924,3.378 -71.52,2.865 ; -75.999,20.863 -73.049,15.754 -70.225,8.343 cw(c-70.844,8.128) -70.588,7.525 ; -75.622,21.011 -74.612,20.982 -73.507,19.068 -73.92,18.183 ; -74.124,5.456 -70.469,7.566 ; -71.52,3.669 -72.028,4.177 -71.52,4.685 ; -70.32,-2.935 -70.32,0.095 -69.07,0.095 -69.07,-2.935 ; -66.4,4.935 -65.76,8.785 -64,8.785 ; -65.04,8.815 -65.04,11.535 -64,11.535 -64,8.785 ; -64,3.565 -8.115,3.565 -8.115,9.565 -2.5,9.565 ; -64,4.865 -71.52,4.865 -71.52,-2.935 -64,-2.935 ; 2.5,9.565 8.115,9.565 8.115,3.565 64,3.565 ; 64,4.865 71.52,4.865 71.52,-2.935 64,-2.935 ; 65.04,8.815 65.04,11.535 64,11.535 64,8.785 ; 66.4,4.935 65.76,8.785 64,8.785 ; 69.07,-2.935 69.07,0.095 70.32,0.095 70.32,-2.935 ; 69.13,9.765 68.472,9.765 66.372,4.99 75.652,21.063 79.705,18.723 79.85,18.974 80.803,18.424 80.918,18.624 81.871,18.074 81.991,18.281 82.072,18.303 83.129,17.693 83.299,17.988 84.364,17.373 ; 70.469,7.566 74.124,5.456 ; 70.588,7.525 cw(c70.844,8.128) 70.225,8.343 73.049,15.754 75.999,20.863 ; 71.52,2.865 72.924,3.378 78.664,13.32 ; 71.52,3.669 72.028,4.177 71.52,4.685 ; 73.92,18.183 73.507,19.068 74.612,20.982 75.622,21.011 ; 78.679,13.324 cw(c80.125,12.49) 80.959,13.935 81.44,13.657 ; 81.441,13.654 ccw(c82.222,15.007) 83.575,14.226 ; 82.138,13.497 84.372,17.345 84.467,17.51 85.22,17.075 83.54,14.165 ; -64,-2.935 -64,8.785 ; -64,-2.935 -64,-9.435 64,-9.435 64,-2.935 ; 64,-2.935 64,8.785
  text "40" at -4.425,-11.515 h1.5
  text "1" at -58.035,-11.515 h1.5
  text "85" at -59.035,0.655 h1.5
  text "10" at -47.605,-11.515 h1.5
  text "93" at -48.875,0.655 h1.5
  text "95" at -41.255,0.655 h1.5
  text "123" at -6.445,0.655 h1.5
  text "125" at 1.175,0.655 h1.5
  text "42" at 3.195,-11.515 h1.5
  text "84" at 56.535,-11.515 h1.5
  text "168" at 55.785,0.655 h1.5
  text "12" at -39.985,-11.515 h1.5

## DIMM1.27-3V168 [mm] "Connector; DIMM; 168 Position; Orientation 25°"
height 12.7
pads (171):
  rect 1.4x1.4 hole 0.8: 1(-57.785,-4.4)
  round 1.4 hole 0.8: 2(-56.515,-2.8) 3(-55.245,-4.4) 4(-53.975,-2.8) 5(-52.705,-4.4) 6(-51.435,-2.8) 7(-50.165,-4.4) 8(-48.895,-2.8) 9(-47.625,-4.4) 10(-46.355,-2.8) 11(-40.005,-4.4) 12(-38.735,-2.8) 13(-37.465,-4.4) 14(-36.195,-2.8) 15(-34.925,-4.4) 16(-33.655,-2.8) 17(-32.385,-4.4) 18(-31.115,-2.8) 19(-29.845,-4.4) 20(-28.575,-2.8) 21(-27.305,-4.4) 22(-26.035,-2.8) 23(-24.765,-4.4) 24(-23.495,-2.8) 25(-22.225,-4.4) 26(-20.955,-2.8) 27(-19.685,-4.4) 28(-18.415,-2.8) 29(-17.145,-4.4) 30(-15.875,-2.8) 31(-14.605,-4.4) 32(-13.335,-2.8) 33(-12.065,-4.4) 34(-10.795,-2.8) 35(-9.525,-4.4) 36(-8.255,-2.8) 37(-6.985,-4.4) 38(-5.715,-2.8) 39(-4.445,-4.4) 40(-3.175,-2.8) 41(3.175,-4.4) 42(4.445,-2.8) 43(5.715,-4.4) 44(6.985,-2.8) 45(8.255,-4.4) 46(9.525,-2.8) 47(10.795,-4.4) 48(12.065,-2.8) 49(13.335,-4.4) 50(14.605,-2.8) 51(15.875,-4.4) 52(17.145,-2.8) 53(18.415,-4.4) 54(19.685,-2.8) 55(20.955,-4.4) 56(22.225,-2.8) 57(23.495,-4.4) 58(24.765,-2.8) 59(26.035,-4.4) 60(27.305,-2.8) 61(28.575,-4.4) 62(29.845,-2.8) 63(31.115,-4.4) 64(32.385,-2.8) 65(33.655,-4.4) 66(34.925,-2.8) 67(36.195,-4.4) 68(37.465,-2.8) 69(38.735,-4.4) 70(40.005,-2.8) 71(41.275,-4.4) 72(42.545,-2.8) 73(43.815,-4.4) 74(45.085,-2.8) 75(46.355,-4.4) 76(47.625,-2.8) 77(48.895,-4.4) 78(50.165,-2.8) 79(51.435,-4.4) 80(52.705,-2.8) 81(53.975,-4.4) 82(55.245,-2.8) 83(56.515,-4.4) 84(57.785,-2.8) 85(-57.785,-1.2) 86(-56.515,0.4) 87(-55.245,-1.2) 88(-53.975,0.4) 89(-52.705,-1.2) 90(-51.435,0.4) 91(-50.165,-1.2) 92(-48.895,0.4) 93(-47.625,-1.2) 94(-46.355,0.4) 95(-40.005,-1.2) 96(-38.735,0.4) 97(-37.465,-1.2) 98(-36.195,0.4) 99(-34.925,-1.2) 100(-33.655,0.4) 101(-32.385,-1.2) 102(-31.115,0.4) 103(-29.845,-1.2) 104(-28.575,0.4) 105(-27.305,-1.2) 106(-26.035,0.4) 107(-24.765,-1.2) 108(-23.495,0.4) 109(-22.225,-1.2) 110(-20.955,0.4) 111(-19.685,-1.2) 112(-18.415,0.4) 113(-17.145,-1.2) 114(-15.875,0.4) 115(-14.605,-1.2) 116(-13.335,0.4) 117(-12.065,-1.2) 118(-10.795,0.4) 119(-9.525,-1.2) 120(-8.255,0.4) 121(-6.985,-1.2) 122(-5.715,0.4) 123(-4.445,-1.2) 124(-3.175,0.4) 125(3.175,-1.2) 126(4.445,0.4) 127(5.715,-1.2) 128(6.985,0.4) 129(8.255,-1.2) 130(9.525,0.4) 131(10.795,-1.2) 132(12.065,0.4) 133(13.335,-1.2) 134(14.605,0.4) 135(15.875,-1.2) 136(17.145,0.4) 137(18.415,-1.2) 138(19.685,0.4) 139(20.955,-1.2) 140(22.225,0.4) 141(23.495,-1.2) 142(24.765,0.4) 143(26.035,-1.2) 144(27.305,0.4) 145(28.575,-1.2) 146(29.845,0.4) 147(31.115,-1.2) 148(32.385,0.4) 149(33.655,-1.2) 150(34.925,0.4) 151(36.195,-1.2) 152(37.465,0.4) 153(38.735,-1.2) 154(40.005,0.4) 155(41.275,-1.2) 156(42.545,0.4) 157(43.815,-1.2) 158(45.085,0.4) 159(46.355,-1.2) 160(47.625,0.4) 161(48.895,-1.2) 162(50.165,0.4) 163(51.435,-1.2) 164(52.705,0.4) 165(53.975,-1.2) 166(55.245,0.4) 167(56.515,-1.2) 168(57.785,0.4)
  round 3.9 hole 2.4: 169(-60.96,4.4) 170(0,-2) 171(60.96,4.4)
Top Overlay:
  lines w0.2: -70.98,3 -70.98,17.5 -65.98,17.5 ; -65,3 -71,3 -71,-7 71,-7 71,3 ; -60.98,17.5 -55.98,17.5 ; -57,3 57,3 ; -50.98,17.5 -45.98,17.5 ; -40.98,17.5 -35.98,17.5 ; -30.98,17.5 -25.98,17.5 ; -20.98,17.5 -15.98,17.5 ; -10.98,17.5 -5.98,17.5 ; -0.98,17.5 4.02,17.5 ; 9.02,17.5 14.02,17.5 ; 19.02,17.5 24.02,17.5 ; 29.02,17.5 34.02,17.5 ; 39.02,17.5 44.02,17.5 ; 49.02,17.5 54.02,17.5 ; 59.02,17.5 64.02,17.5 ; 65,3 71,3 ; 69.02,17.5 71.02,17.5 ; 71,17.5 71,3
  text "1" at -58.035,-8.975 h1.5
  text "94" at -47.605,3.475 h1.5
  text "11" at -40.88,-8.975 h1.5
  text "96" at -39.985,3.475 h1.5
  text "124" at -5.05,3.475 h1.5
  text "41" at 2.175,-8.975 h1.5
  text "126" at 2.57,3.475 h1.5
  text "83" at 55.265,-8.975 h1.5
  text "9" at -48.125,-8.975 h1.5
  text "39" at -5.695,-8.975 h1.5
  text "168" at 54.585,3.475 h1.5

## DIMM1.27-3V168B [mm] "Connector; DIMM II; 168 Position; Vertical"
height 23.77
pads (171):
  rect 1.4x1.4 hole 0.81: 1(-57.785,-0.95)
  round 1.4 hole 0.81: 2(-56.515,-2.85) 3(-55.245,-0.95) 4(-53.975,-2.85) 5(-52.705,-0.95) 6(-51.435,-2.85) 7(-50.165,-0.95) 8(-48.895,-2.85) 9(-47.625,-0.95) 10(-46.355,-2.85) 11(-40.005,-0.95) 12(-38.735,-2.85) 13(-37.465,-0.95) 14(-36.195,-2.85) 15(-34.925,-0.95) 16(-33.655,-2.85) 17(-32.385,-0.95) 18(-31.115,-2.85) 19(-29.845,-0.95) 20(-28.575,-2.85) 21(-27.305,-0.95) 22(-26.035,-2.85) 23(-24.765,-0.95) 24(-23.495,-2.85) 25(-22.225,-0.95) 26(-20.955,-2.85) 27(-19.685,-0.95) 28(-18.415,-2.85) 29(-17.145,-0.95) 30(-15.875,-2.85) 31(-14.605,-0.95) 32(-13.335,-2.85) 33(-12.065,-0.95) 34(-10.795,-2.85) 35(-9.525,-0.95) 36(-8.255,-2.85) 37(-6.985,-0.95) 38(-5.715,-2.85) 39(-4.445,-0.95) 40(-3.175,-2.85) 41(3.175,-0.95) 42(4.445,-2.85) 43(5.715,-0.95) 44(6.985,-2.85) 45(8.255,-0.95) 46(9.525,-2.85) 47(10.795,-0.95) 48(12.065,-2.85) 49(13.335,-0.95) 50(14.605,-2.85) 51(15.875,-0.95) 52(17.145,-2.85) 53(18.415,-0.95) 54(19.685,-2.85) 55(20.955,-0.95) 56(22.225,-2.85) 57(23.495,-0.95) 58(24.765,-2.85) 59(26.035,-0.95) 60(27.305,-2.85) 61(28.575,-0.95) 62(29.845,-2.85) 63(31.115,-0.95) 64(32.385,-2.85) 65(33.655,-0.95) 66(34.925,-2.85) 67(36.195,-0.95) 68(37.465,-2.85) 69(38.735,-0.95) 70(40.005,-2.85) 71(41.275,-0.95) 72(42.545,-2.85) 73(43.815,-0.95) 74(45.085,-2.85) 75(46.355,-0.95) 76(47.625,-2.85) 77(48.895,-0.95) 78(50.165,-2.85) 79(51.435,-0.95) 80(52.705,-2.85) 81(53.975,-0.95) 82(55.245,-2.85) 83(56.515,-0.95) 84(57.785,-2.85) 85(-57.785,2.85) 86(-56.515,0.95) 87(-55.245,2.85) 88(-53.975,0.95) 89(-52.705,2.85) 90(-51.435,0.95) 91(-50.165,2.85) 92(-48.895,0.95) 93(-47.625,2.85) 94(-46.355,0.95) 95(-40.005,2.85) 96(-38.735,0.95) 97(-37.465,2.85) 98(-36.195,0.95) 99(-34.925,2.85) 100(-33.655,0.95) 101(-32.385,2.85) 102(-31.115,0.95) 103(-29.845,2.85) 104(-28.575,0.95) 105(-27.305,2.85) 106(-26.035,0.95) 107(-24.765,2.85) 108(-23.495,0.95) 109(-22.225,2.85) 110(-20.955,0.95) 111(-19.685,2.85) 112(-18.415,0.95) 113(-17.145,2.85) 114(-15.875,0.95) 115(-14.605,2.85) 116(-13.335,0.95) 117(-12.065,2.85) 118(-10.795,0.95) 119(-9.525,2.85) 120(-8.255,0.95) 121(-6.985,2.85) 122(-5.715,0.95) 123(-4.445,2.85) 124(-3.175,0.95) 125(3.175,2.85) 126(4.445,0.95) 127(5.715,2.85) 128(6.985,0.95) 129(8.255,2.85) 130(9.525,0.95) 131(10.795,2.85) 132(12.065,0.95) 133(13.335,2.85) 134(14.605,0.95) 135(15.875,2.85) 136(17.145,0.95) 137(18.415,2.85) 138(19.685,0.95) 139(20.955,2.85) 140(22.225,0.95) 141(23.495,2.85) 142(24.765,0.95) 143(26.035,2.85) 144(27.305,0.95) 145(28.575,2.85) 146(29.845,0.95) 147(31.115,2.85) 148(32.385,0.95) 149(33.655,2.85) 150(34.925,0.95) 151(36.195,2.85) 152(37.465,0.95) 153(38.735,2.85) 154(40.005,0.95) 155(41.275,2.85) 156(42.545,0.95) 157(43.815,2.85) 158(45.085,0.95) 159(46.355,2.85) 160(47.625,0.95) 161(48.895,2.85) 162(50.165,0.95) 163(51.435,2.85) 164(52.705,0.95) 165(53.975,2.85) 166(55.245,0.95) 167(56.515,2.85) 168(57.785,0.95)
  round 3.9 hole 2.44: 169(-60.955,0) 170(0,0) 171(60.955,0)
Top Overlay:
  lines w0.2: -70.49,-5 70.49,-5 70.49,5 -70.49,5 -70.49,-5
  text "95" at -41.255,5.475 h1.5
  text "12" at -39.86,-6.975 h1.5
  text "1" at -58.035,-6.975 h1.5
  text "85" at -59.035,5.475 h1.5
  text "10" at -47.48,-6.975 h1.5
  text "93" at -48.875,5.475 h1.5
  text "40" at -4.425,-6.975 h1.5
  text "42" at 3.195,-6.975 h1.5
  text "123" at -6.32,5.475 h1.5
  text "125" at 1.3,5.475 h1.5
  text "84" at 56.535,-6.975 h1.5
  text "168" at 55.91,5.475 h1.5

## DIMM1.27-3V168C [mm]
pads (171):
  rect 1.4x1.4 hole 0.81: 1(-59.37,-0.95)
  round 1.4 hole 0.81: 2(-58.1,-2.85) 3(-56.83,-0.95) 4(-55.56,-2.85) 5(-54.29,-0.95) 6(-53.02,-2.85) 7(-51.75,-0.95) 8(-50.48,-2.85) 9(-49.21,-0.95) 10(-47.94,-2.85) 11(-41.59,-0.95) 12(-40.32,-2.85) 13(-39.05,-0.95) 14(-37.78,-2.85) 15(-36.51,-0.95) 16(-35.24,-2.85) 17(-33.97,-0.95) 18(-32.7,-2.85) 19(-31.43,-0.95) 20(-30.16,-2.85) 21(-28.89,-0.95) 22(-27.62,-2.85) 23(-26.35,-0.95) 24(-25.08,-2.85) 25(-23.81,-0.95) 26(-22.54,-2.85) 27(-21.27,-0.95) 28(-20,-2.85) 29(-18.73,-0.95) 30(-17.46,-2.85) 31(-16.19,-0.95) 32(-14.92,-2.85) 33(-13.65,-0.95) 34(-12.38,-2.85) 35(-11.11,-0.95) 36(-9.84,-2.85) 37(-8.57,-0.95) 38(-7.3,-2.85) 39(-6.03,-0.95) 40(-4.76,-2.85) 41(1.59,-0.95) 42(2.86,-2.85) 43(4.13,-0.95) 44(5.4,-2.85) 45(6.67,-0.95) 46(7.94,-2.85) 47(9.21,-0.95) 48(10.48,-2.85) 49(11.75,-0.95) 50(13.02,-2.85) 51(14.29,-0.95) 52(15.56,-2.85) 53(16.83,-0.95) 54(18.1,-2.85) 55(19.37,-0.95) 56(20.64,-2.85) 57(21.91,-0.95) 58(23.18,-2.85) 59(24.45,-0.95) 60(25.72,-2.85) 61(26.99,-0.95) 62(28.26,-2.85) 63(29.53,-0.95) 64(30.8,-2.85) 65(32.07,-0.95) 66(33.34,-2.85) 67(34.61,-0.95) 68(35.88,-2.85) 69(37.15,-0.95) 70(38.42,-2.85) 71(39.69,-0.95) 72(40.96,-2.85) 73(42.23,-0.95) 74(43.5,-2.85) 75(44.77,-0.95) 76(46.04,-2.85) 77(47.31,-0.95) 78(48.58,-2.85) 79(49.85,-0.95) 80(51.12,-2.85) 81(52.39,-0.95) 82(53.66,-2.85) 83(54.93,-0.95) 84(56.2,-2.85) 85(-59.37,2.85) 86(-58.1,0.95) 87(-56.83,2.85) 88(-55.56,0.95) 89(-54.29,2.85) 90(-53.02,0.95) 91(-51.75,2.85) 92(-50.48,0.95) 93(-49.21,2.85) 94(-47.94,0.95) 95(-41.59,2.85) 96(-40.32,0.95) 97(-39.05,2.85) 98(-37.78,0.95) 99(-36.51,2.85) 100(-35.24,0.95) 101(-33.97,2.85) 102(-32.7,0.95) 103(-31.43,2.85) 104(-30.16,0.95) 105(-28.89,2.85) 106(-27.62,0.95) 107(-26.35,2.85) 108(-25.08,0.95) 109(-23.81,2.85) 110(-22.54,0.95) 111(-21.27,2.85) 112(-20,0.95) 113(-18.73,2.85) 114(-17.46,0.95) 115(-16.19,2.85) 116(-14.92,0.95) 117(-13.65,2.85) 118(-12.38,0.95) 119(-11.11,2.85) 120(-9.84,0.95) 121(-8.57,2.85) 122(-7.3,0.95) 123(-6.03,2.85) 124(-4.76,0.95) 125(1.59,2.85) 126(2.86,0.95) 127(4.13,2.85) 128(5.4,0.95) 129(6.67,2.85) 130(7.94,0.95) 131(9.21,2.85) 132(10.48,0.95) 133(11.75,2.85) 134(13.02,0.95) 135(14.29,2.85) 136(15.56,0.95) 137(16.83,2.85) 138(18.1,0.95) 139(19.37,2.85) 140(20.64,0.95) 141(21.91,2.85) 142(23.18,0.95) 143(24.45,2.85) 144(25.72,0.95) 145(26.99,2.85) 146(28.26,0.95) 147(29.53,2.85) 148(30.8,0.95) 149(32.07,2.85) 150(33.34,0.95) 151(34.61,2.85) 152(35.88,0.95) 153(37.15,2.85) 154(38.42,0.95) 155(39.69,2.85) 156(40.96,0.95) 157(42.23,2.85) 158(43.5,0.95) 159(44.77,2.85) 160(46.04,0.95) 161(47.31,2.85) 162(48.58,0.95) 163(49.85,2.85) 164(51.12,0.95) 165(52.39,2.85) 166(53.66,0.95) 167(54.93,2.85) 168(56.2,0.95)
  round 3.9 hole 2.44: 169(-44.77,0) 170(-1.585,0) 171(59.37,0)
Top Overlay:
  lines w0.2: -72.075,-5 -72.075,5 68.905,5 68.905,-5 -72.075,-5
  text "168" at 54.325,5.475 h1.5
  text "84" at 54.95,-6.975 h1.5
  text "125" at -0.285,5.475 h1.5
  text "123" at -7.905,5.475 h1.5
  text "42" at 1.61,-6.975 h1.5
  text "40" at -6.01,-6.975 h1.5
  text "93" at -50.46,5.475 h1.5
  text "10" at -49.065,-6.975 h1.5
  text "85" at -60.62,5.475 h1.5
  text "1" at -59.62,-6.975 h1.5
  text "12" at -41.445,-6.975 h1.5
  text "95" at -42.84,5.475 h1.5